# EAGLE library part SI1133 (library CalvEngIO-Sensors)
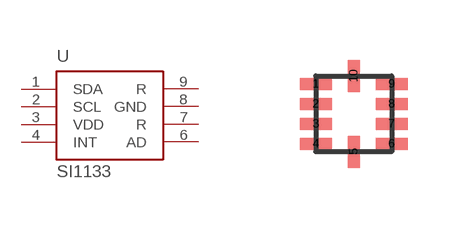
[diagram p12: symbol with the pads of 10-QFN; footprint 10-QFN]

Designator prefix U

## SI1133  [10-QFN]
1  SDA
2  SCL
3  VDD
4  INT
6  AD
7  R
8  GND
9  R

## Footprint 10-QFN (pad centres in mm)
smd 0.8 x 0.3: 1 -0.95,0.75; 2 -0.95,0.25; 3 -0.95,-0.25; 4 -0.95,-0.75; 6 0.95,-0.75; 7 0.95,-0.25; 8 0.95,0.25; 9 0.95,0.75
smd 0.3 x 0.8: 5 0,-0.95; 10 0,0.95